# Altium footprint library C055A2.PcbLib: 1 footprints
Each footprint in its own frame and in the unit in brackets; x right, y up, seen from the top. Pads: shape width x height; smd on the part's side, far side on the other; paste and mask are expansions set on the pad; w line width, h text height; cw(c..) or ccw(c..) is an arc to the next point about the centre after c.
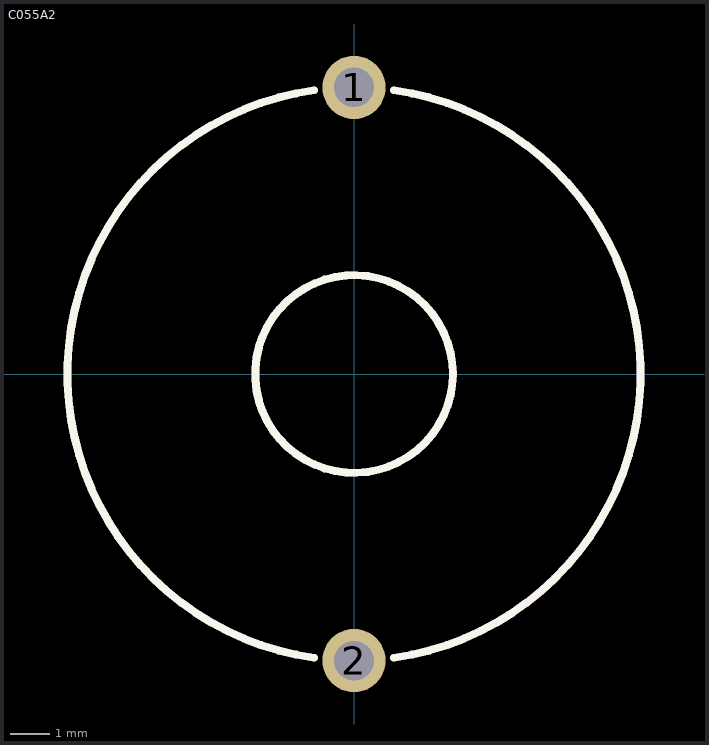
[diagram p0: the footprint, top view; thin cyan lines are the x and y axes]

## C055A2 [mm]
height 16
pads (2):
  round 1.6 hole 1: 1(0,7.25) 2(0,-7.25)
Top Overlay:
  circle w0.2: c0,0 r2.5
  lines w0.2: -1.009,-7.18 cw(c0,0) -1.009,7.179 ; 1.009,-7.18 ccw(c0,0) 1.009,7.179
Mechanical 7:
  circle w0.2: c0,0 r2.5
  lines w0.2: -1.009,-7.179 cw(c0,0) -1.009,7.179 ; 1.009,-7.179 ccw(c0,0) 1.009,7.179
3D body: height 5.5, standoff 0, extent -6.75,-6.747 6.75,6.747